# Altium schematic symbol library WE-CBF_0805.SchLib: 1 symbol
Pins are listed as number, name and electrical type; pins without a type are passive.

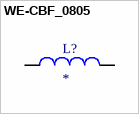
[diagram p0: symbol WE-CBF_0805]

## WE-CBF_0805
designator L?
Size 0805; Z @ 100 MHz = 600 â„¦; Zmax = 700 â„¦ @ 150 MHz; IR = 2000 mA; RDC = 0.15 â„¦; MF: Wurth Electronics; MP: 742792040; SnapEDA_Link: https://www.snapeda.com/parts/742792040/Wurth+Electronics/view-part/?ref=snap; Package: 0805 Wurth Elektronik; Value: *; Check_prices: https://www.snapeda.com/parts/742792040/Wurth+Electronics/view-part/?ref=eda
footprint WE-CBF_0805_W4.0
pins: 1, 2